# Altium schematic symbol library Commodore CPM Modul.SCHLIB: 21 symbols
Pins are listed as number, name and electrical type; pins without a type are passive.

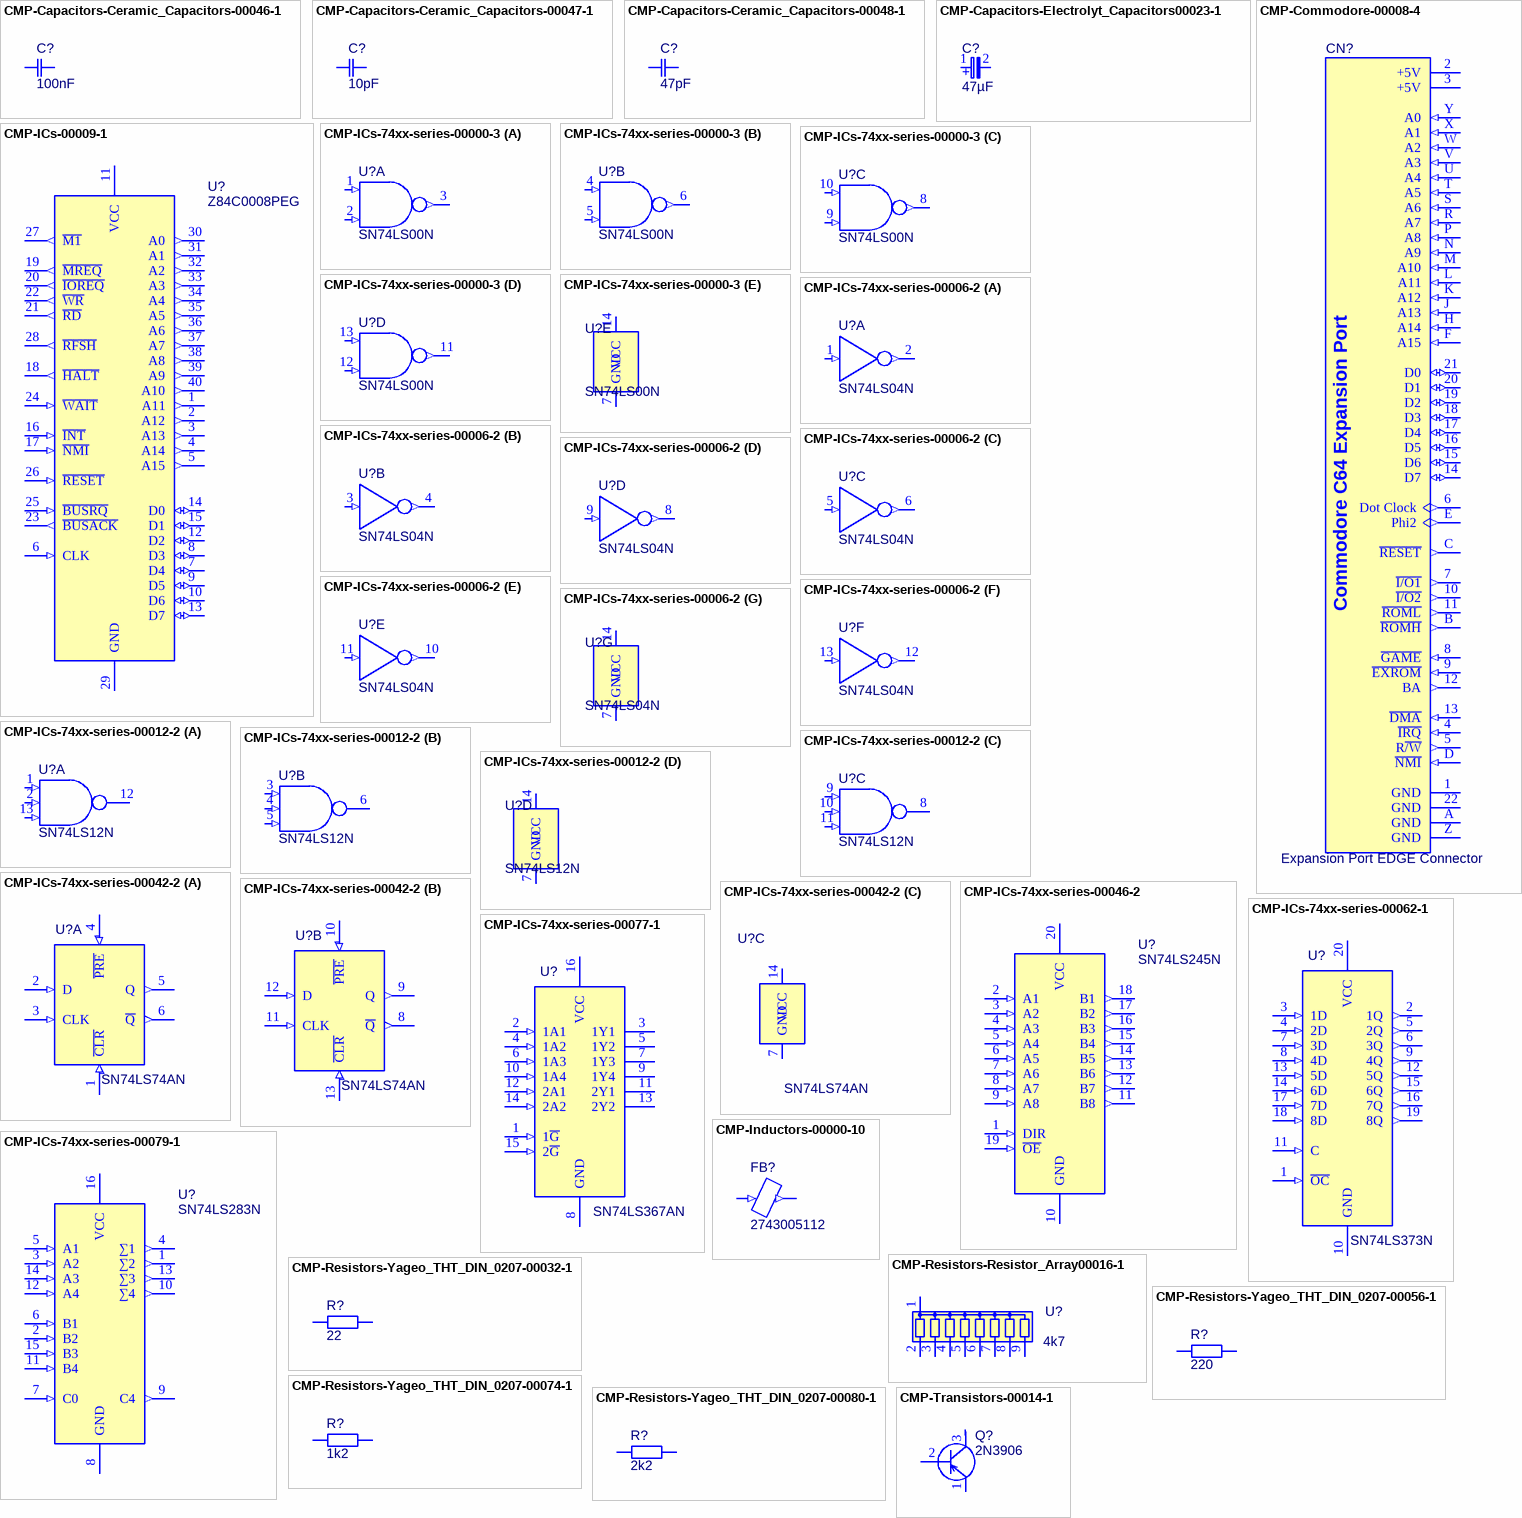
[diagram p0: symbols CMP-Capacitors-Ceramic_Capacitors-00046-1 to CMP-Transistors-00014-1]

## CMP-Capacitors-Ceramic_Capacitors-00046-1
designator C?, comment 100nF
Cap Ceramic 0.1uF 50V X7R 5% Radial 5.08mm 125C Bulk; Manufacturer: KEMET; Manufacturer Part Number: C330C104J5R5TA; Capacitance: 100nF; Construction: RADIAL; Length: 7.62mm; Mount: Through Hole; Radiation Hardening: No; Max Operating Temperature: 125°C; Min Operating Temperature: -55°C; RoHS Compliant: Yes; Depth: 3.81mm; Termination: Radial; Case/Package: Dipped; Tolerance: 5%; Packaging: Bulk; Lead Pitch: 5.08mm; Dielectric: X7R; Component Type: Ceramic Capacitors
footprint CAP CER 0.1UF 50V X7R RADIAL Kemet C330C104J5R5TA (0,1µF ±5% 50V Keramikkondensatoren X7R Radial)
pins: 1, 2

## CMP-Capacitors-Ceramic_Capacitors-00047-1
designator C?, comment 10pF
Cap Ceramic 10pF 50V C0G 5% Axial 125C T/R; Manufacturer: Vishay BCcomponents; Manufacturer Part Number: A100J15C0GF5TAA; Voltage Rating: 50V; Max Operating Temperature: 125°C; RoHS Compliant: Yes; Package Quantity: 7000; Series: A; Min Operating Temperature: -55°C; Termination: Axial; Radiation Hardening: No; Construction: AXIAL; Capacitance: 10pF; Case/Package: Axial; Dielectric: C0G; Packaging: Tape and Reel; Mount: Through Hole; Tolerance: 5%; Length: 0.15inch; Component Type: Ceramic Capacitors
footprint CAP CER 10PF 50V C0G/NP0 AXIAL Vishay A100J15C0GF5TAA (10pF ±5% 50V Keramikkondensatoren C0G, NP0 Axial)
pins: 1, 2

## CMP-Capacitors-Ceramic_Capacitors-00048-1
designator C?, comment 47pF
Cap Ceramic 47pF 50V C0G 5% Axial 125C T/R; Manufacturer: Vishay BCcomponents; Manufacturer Part Number: A470J15C0GF5TAA; Series: A; Voltage Rating: 50V; Termination: Axial; Packaging: Tape and Reel; Max Operating Temperature: 125°C; Construction: AXIAL; Dielectric: C0G; Mount: Through Hole; Tolerance: 5%; Min Operating Temperature: -55°C; Case/Package: Axial; Radiation Hardening: No; Capacitance: 47pF; RoHS Compliant: Yes; Length: 0.15inch; Package Quantity: 7000; Component Type: Ceramic Capacitors
footprint CAP CER 47PF 50V C0G/NP0 AXIAL Vishay A470J15C0GF5TAA (47pF ±5% 50V Keramikkondensatoren C0G, NP0 Axial)
pins: 1, 2

## CMP-Capacitors-Electrolyt_Capacitors00023-1
designator C?, comment 47µF
Cap Aluminum 47uF 25V -10% to 50% (6 X 10mm) Axial 4.8 Ohm 100mA 3000 hr 85C Taped in Box; Manufacturer: Vishay; Manufacturer Part Number: MAL203036479E3; Life (Hours): 3000Hour; Lead Diameter: 0.6mm; Leakage Current: 12uA; Polarity: Polar; Impedance: 1.9R; ESR (Equivalent Series Resistance): 4.8R; Radiation Hardening: No; Voltage Rating: 25V; Termination: Axial; Diameter: 6mm; Min Operating Temperature: -40°C; Capacitance: 47uF; Ripple Current: 100mA; Series: 030 AS; Case/Package: Axial; RoHS Compliant: Yes; Voltage: 25V; Voltage Rating (DC): 25V; Mount: Through Hole; Package Quantity: 1000; Packaging: Tape and Reel; Tolerance: 50%; Lead Pitch: 15mm; Height: 10mm; Construction: AXIAL; Max Operating Temperature: 85°C; Length: 10mm; REACH SVHC: Unknown; Component Type: Electrolyt Capacitors
footprint CAP Elec 47uF 25V Axial - Vishay MAL203036479E3 (Aluminium Electrolytic Capacitors - Axial Leaded 47uF 25V -10%,+50% Axial)
pins: 1, 2
text: +

## CMP-Commodore-00008-4
designator CN?, comment Expansion Port EDGE Connector  (no BOM)
Expansion Port EDGE Connector for Interface Cards; Component Type: Commodore
footprint C64 Expansion Port EDGE Connector
pins: 1 GND (power), 2 +5V (power), 3 +5V (power), 4 ~{IRQ} (in), 5 R~{/W} (out), 6 Dot Clock (out), 7 ~{I/O1} (out), 8 ~{GAME} (in), 9 ~{EXROM} (in), 10 ~{I/O2} (out), 11 ~{ROML} (out), 12 BA (out), 13 ~{DMA} (in), 14 D7 (io), 15 D6 (io), 16 D5 (io), 17 D4 (io), 18 D3 (io), 19 D2 (io), 20 D1 (io), 21 D0 (io), 22 GND (power), A GND (power), B ~{ROMH} (out), C ~{RESET} (out), D ~{NMI} (in), E Phi2 (out), F A15 (in), H A14 (in), J A13 (in), K A12 (in), L A11 (in), M A10 (in), N A9 (in), P A8 (in), R A7 (in), S A6 (in), T A5 (in), U A4 (in), V A3 (in), W A2 (in), X A1 (in), Y A0 (in), Z GND (power)
text: Commodore C64 Expansion Port

## CMP-ICs-00009-1
designator U?, comment Z84C0008PEG
IC MPU Z80 8MHZ 40DIP; Manufacturer: Ixys Zilog; Memory Size: 64KB; Core Architecture: Z8; Data Bus Width: 8b; Memory Type: ROMless; Max Supply Voltage: 5V; Number of I/Os: 24; Min Supply Voltage: 4.5V; Max Operating Temperature: 100°C; Mount: Through Hole; REACH SVHC: Unknown; Lead Free: Lead Free; Case/Package: DIP; Max Frequency: 8MHz; Frequency: 8MHz; Length: 62.74mm; Height: 4.19mm; Radiation Hardening: No; Packaging: Rail/Tube; Number of Pins: 40; Voltage: 5V; Min Operating Temperature: -40°C; Width: 14.22mm; Package Quantity: 10; Manufacturer Part Number: Z84C0008PEG; Component Type: ICs
footprint Zilog Z80 CPU with Socket
footprint Zilog Z80 CPU
pins: 1 A11 (out), 2 A12 (out), 3 A13 (out), 4 A14 (out), 5 A15 (out), 6 CLK (in), 7 D4 (io), 8 D3 (io), 9 D5 (io), 10 D6 (io), 11 VCC (power), 12 D2 (io), 13 D7 (io), 14 D0 (io), 15 D1 (io), 16 ~{INT} (in), 17 ~{NMI} (in), 18 ~{HALT} (out), 19 ~{MREQ} (out), 20 ~{IOREQ} (out), 21 ~{RD} (out), 22 ~{WR} (out), 23 ~{BUSACK} (out), 24 ~{WAIT} (in), 25 ~{BUSRQ} (in), 26 ~{RESET} (in), 27 ~{M1} (out), 28 ~{RFSH} (out), 29 GND (power), 30 A0 (out), 31 A1 (out), 32 A2 (out), 33 A3 (out), 34 A4 (out), 35 A5 (out), 36 A6 (out), 37 A7 (out), 38 A8 (out), 39 A9 (out), 40 A10 (out)

## CMP-ICs-74xx-series-00000-3
designator U?, comment SN74LS00N
IC, 74LS, 74LS00, DIP14, 5.25V; Manufacturer: Texas Instruments; Number of Gates: 4; High Level Output Current: -400uA; Number of Input Lines: 2; Number of Output Lines: 1; Low Level Output Current: 8mA; Schmitt Trigger Input: No; Min Supply Voltage: 4.75V; Turn-On Delay Time: 15ns; Output Current: 16mA; Logic Function: NAND; Operating Supply Voltage: 5V; Quiescent Current: 2.4mA; Max Operating Temperature: 70°C; Number of Bits: 4; Packaging: Rail/Tube; Case/Package: PDIP; Lead Free: Lead Free; Length: 19.3mm; Radiation Hardening: No; Package Quantity: 25; Width: 6.35mm; Number of Elements: 4; Mount: Through Hole; Number of Circuits: 4; Min Operating Temperature: 0°C; Contact Plating: Gold; Number of Outputs: 1; Height: 4.57mm; Number of Inputs: 2; Number of Pins: 14; Propagation Delay: 15ns; REACH SVHC: No SVHC; Max Supply Voltage: 5.25V; Weight: 0.032734oz; Manufacturer Part Number: SN74LS00N; Component Type: 74xx-series
footprint SN74LS00N with Socket
footprint SN74LS00N
part A pins: 1 1A (in), 2 1B (in), 3 1Y (out)
part B pins: 4 2A (in), 5 2B (in), 6 2Y (out)
part C pins: 8 3Y (out), 9 3B (in), 10 3A (in)
part D pins: 11 4Y (out), 12 4B (in), 13 4A (in)
part E pins: 7 GND, 14 VCC (power)

## CMP-ICs-74xx-series-00006-2
designator U?, comment SN74LS04N
IC HEX INVERTER 14-DIP; Manufacturer: Texas Instruments; Low Level Output Current: 8mA; Number of Output Lines: 6; Propagation Delay: 15ns; High Level Output Current: -400uA; Operating Supply Voltage: 5V; Min Supply Voltage: 4.75V; Logic Function: Buffer,Inverter; Turn-On Delay Time: 22ns; Nominal Supply Current: 100uA; Number of Inputs: 1; Max Supply Voltage: 5.25V; Schmitt Trigger Input: No; Contact Plating: Gold; Packaging: Rail/Tube; Case/Package: PDIP; Lead Free: Lead Free; Weight: 0.032734oz; Width: 6.35mm; Number of Pins: 14; Output Current: 8mA; Number of Gates: 6; Length: 19.3mm; REACH SVHC: No SVHC; Max Output Current: 8mA; Number of Circuits: 6; Min Operating Temperature: 0°C; Number of Bits: 6; Mount: Through Hole; Height: 4.57mm; Package Quantity: 25; Number of Elements: 6; Max Operating Temperature: 70°C; Radiation Hardening: No; Termination: Through Hole; Manufacturer Part Number: SN74LS04N; Component Type: 74xx-series
footprint SN74LS04N with Socket
footprint SN74LS04N
part A pins: 1 1A (in), 2 1Y (out)
part B pins: 3 2A (in), 4 2Y (out)
part C pins: 5 3A (in), 6 3Y (out)
part D pins: 8 4Y (out), 9 4A (in)
part E pins: 10 5Y (out), 11 5A (in)
part F pins: 12 6Y (out), 13 6A (in)
part G pins: 7 GND, 14 VCC (power)

## CMP-ICs-74xx-series-00012-2
designator U?, comment SN74LS12N
Logic Gates Triple 3-input Positive-NAND gates with open collector outputs 14-PDIP 0 to 70; Manufacturer: Texas Instruments; Logic Function: NAND; Case/Package: PDIP; Lead Free: Contains Lead; Manufacturer Part Number: SN74LS12N; Component Type: 74xx-series
footprint SN74LS12N with Socket (triple 3-input NAND gate)
footprint SN74LS12N (triple 3-input NAND gate)
part A pins: 1 1A (in), 2 1B (in), 12 1Y (oc), 13 1C (in)
part B pins: 3 2A (in), 4 2B (in), 5 2C (in), 6 2Y (oc)
part C pins: 8 3Y (oc), 9 3A (in), 10 3C (in), 11 3B (in)
part D pins: 7 GND, 14 VCC (power)

## CMP-ICs-74xx-series-00042-2
designator U?, comment SN74LS74AN
TEXAS INSTRUMENTS   SN74LS74AN   Flip-Flop, with Set and Reset, Complementary Output, Differential, Positive Edge, D, 13 ns, 33 MHz; Max Supply Voltage: 5.25V; Number of Bits: 2; Frequency: 33MHz; Number of Input Lines: 3; Output Current: 16mA; Propagation Delay: 40ns; Min Supply Voltage: 4.75V; Output Type: TTL; Logic Function: AND,D-Type,Flip-Flop,Latch; Number of Output Lines: 1; Polarity: Non-Inverting; Turn-On Delay Time: 13ns; Nominal Supply Current: 25mA; Operating Supply Voltage: 5V; Low Level Output Current: 8mA; High Level Output Current: -400uA; Radiation Hardening: No; Case/Package: PDIP; Width: 6.35mm; Contact Plating: Gold; Length: 19.3mm; Weight: 0.032734oz; Clock Edge Trigger Type: Positive Edge; Mount: Through Hole; Max Frequency: 33MHz; Min Operating Temperature: 0°C; Number of Circuits: 2; Packaging: Rail/Tube; Number of Channels: 2; REACH SVHC: No SVHC; Number of Pins: 14; Height: 4.57mm; Number of Bits per Element: 1; Max Operating Temperature: 70°C; Lead Free: Lead Free; Package Quantity: 25; Number of Elements: 2; Manufacturer: Texas Instruments; Manufacturer Part Number: SN74LS74AN; Component Type: 74xx-series
footprint SN74LS74N with Socket
footprint SN74LS74N
part A pins: 1 ~{CLR} (in), 2 D (in), 3 CLK (in), 4 ~{PRE} (in), 5 Q (out), 6 ~{Q} (out)
part B pins: 8 ~{Q} (out), 9 Q (out), 10 ~{PRE} (in), 11 CLK (in), 12 D (in), 13 ~{CLR} (in)
part C pins: 7 GND, 14 VCC (power)

## CMP-ICs-74xx-series-00046-2
designator U?, comment SN74LS245N
IC TXRX NON-INVERT 5.25V 20DIP; Manufacturer: Texas Instruments; Turn-On Delay Time: 12ns; Logic Function: Transceiver,Inverting; Number of Outputs: 8; Min Supply Voltage: 4.75V; Operating Supply Voltage: 5V; Quiescent Current: 62mA; Polarity: Non-Inverting; Low Level Output Current: 24mA; Number of Elements: 1; High Level Output Current: -15mA; Direction: Bidirectional; Mount: Through Hole; Number of Bits: 8; Number of Circuits: 8; Propagation Delay: 12ns; Number of Transceivers: 8; Max Operating Temperature: 70°C; Number of Bits per Element: 8; Contact Plating: Gold; Length: 24.33mm; Weight: 0.042297oz; Width: 6.35mm; Lead Free: Lead Free; Number of Pins: 20; Packaging: Rail/Tube; Max Supply Voltage: 5.25V; Radiation Hardening: No; Height: 4.57mm; Min Operating Temperature: 0°C; Termination: Through Hole; REACH SVHC: No SVHC; Number of Channels: 8; Case/Package: PDIP; Package Quantity: 20; Manufacturer Part Number: SN74LS245N; Component Type: 74xx-series
footprint SN74LS245N with Socket
footprint SN74LS245N
pins: 1 DIR (in), 2 A1 (in), 3 A2 (in), 4 A3 (in), 5 A4 (in), 6 A5 (in), 7 A6 (in), 8 A7 (in), 9 A8 (in), 10 GND, 11 B8 (out), 12 B7 (out), 13 B6 (out), 14 B5 (out), 15 B4 (out), 16 B3 (out), 17 B2 (out), 18 B1 (out), 19 ~{OE} (in), 20 VCC

## CMP-ICs-74xx-series-00062-1
designator U?, comment SN74LS373N
Latch Transparent 3-ST 8-CH D-Type 20-Pin PDIP Tube; Manufacturer: Texas Instruments; Max Supply Voltage: 5.25V; Number of Circuits: 8; Logic Function: D-Type,Latch,Flip-Flop; Low Level Output Current: 24mA; Number of Output Lines: 1; Propagation Delay: 18ns; Number of Input Lines: 3; Operating Supply Current: 40mA; Min Supply Voltage: 4.75V; Polarity: Non-Inverting; Operating Supply Voltage: 5V; Turn-On Delay Time: 12ns; High Level Output Current: -2.6mA; Weight: 0.042297oz; Number of Bits: 8; Max Operating Temperature: 70°C; Package Quantity: 20; Number of Outputs: 8; Case/Package: PDIP; Quiescent Current: 24mA; Min Operating Temperature: 0°C; Width: 6.35mm; Contact Plating: Gold; Lead Free: Lead Free; Number of Elements: 1; Mount: Through Hole; Number of Channels: 8; Height: 4.57mm; REACH SVHC: No SVHC; Number of Pins: 20; Packaging: Rail/Tube; Output Current: 24mA; Radiation Hardening: No; Independent Circuits: 1; Length: 24.33mm; Manufacturer Part Number: SN74LS373N; Component Type: 74xx-series
footprint SN74LS373N with Socket (OCTAL D-TYPE TRANSPARENT LATCHES AND EDGE-TRIGGERED FLIP-FLOPS)
footprint SN74LS373N (OCTAL D-TYPE TRANSPARENT LATCHES AND EDGE-TRIGGERED FLIP-FLOPS)
pins: 1 ~{OC} (in), 2 1Q (out), 3 1D (in), 4 2D (in), 5 2Q (out), 6 3Q (out), 7 3D (in), 8 4D (in), 9 4Q (out), 10 GND (power), 11 C (in), 12 5Q (out), 13 5D (in), 14 6D (in), 15 6Q (out), 16 7Q (out), 17 7D (in), 18 8D (in), 19 8Q (out), 20 VCC (power)

## CMP-ICs-74xx-series-00077-1
designator U?, comment SN74LS367AN
I.C. SN74LS 367 AN; Manufacturer: ON Semiconductor; Number of Inputs: 6; Nominal Supply Current: 100uA; Low Level Output Current: 24mA; Quiescent Current: 12mA; Min Supply Voltage: 4.75V; Propagation Delay: 40ns; High Level Output Current: -2.6mA; Max Supply Voltage: 5.25V; Polarity: Non-Inverting; Number of Elements: 2; Operating Supply Voltage: 5V; Logic Function: Buffer; Output Type: 3-STATE; Width: 6.35mm; Height: 4.57mm; Number of Bits: 6; Technology: BIPOLAR; Max Operating Temperature: 70°C; RoHS Compliant: No; Length: 19.3mm; Number of Channels: 6; Mount: Through Hole; Min Operating Temperature: 0°C; Number of Circuits: 6; REACH SVHC: No SVHC; Case/Package: PDIP; Packaging: Box; Lead Free: Lead Free; Number of Outputs: 6; Output Current: 24mA; Number of Pins: 16; Manufacturer Part Number: SN74LS367AN; Component Type: 74xx-series
footprint SN74LS367A with Socket (hex buffer, non-inverting outputs)
footprint SN74LS367A (hex buffer, non-inverting outputs)
pins: 1 1~{G} (in), 2 1A1 (in), 3 1Y1 (oc), 4 1A2 (in), 5 1Y2 (oc), 6 1A3 (in), 7 1Y3 (oc), 8 GND (power), 9 1Y4 (oc), 10 1A4 (in), 11 2Y1 (oc), 12 2A1 (in), 13 2Y2, 14 2A2 (in), 15 2~{G} (in), 16 VCC (power)

## CMP-ICs-74xx-series-00079-1
designator U?, comment SN74LS283N
Binary Full Adder Single 4-Bit 16-Pin PDIP Box; Manufacturer: ON Semiconductor; Operating Supply Voltage: 5V; High Level Output Current: -400uA; Max Supply Voltage: 5.25V; Low Level Output Current: 8mA; Min Supply Voltage: 4.75V; Number of Bits: 4; Lead Free: Lead Free; Max Operating Temperature: 70°C; Number of Pins: 16; RoHS Compliant: No; REACH SVHC: No SVHC; Packaging: Box; Logic Function: Binary Full Adder; Mount: Through Hole; Min Operating Temperature: 0°C; Case/Package: PDIP; Manufacturer Part Number: SN74LS283N; Component Type: 74xx-series
footprint SN74LS283N with Socket (4-bit binary full adder (has carry in function))
footprint SN74LS283N (4-bit binary full adder (has carry in function))
pins: 1 ∑2 (out), 2 B2 (in), 3 A2 (in), 4 ∑1 (out), 5 A1 (in), 6 B1 (in), 7 C0 (in), 8 GND (power), 9 C4 (out), 10 ∑4 (out), 11 B4 (in), 12 A4 (in), 13 ∑3 (out), 14 A3 (in), 15 B3 (in), 16 VCC (power)

## CMP-Inductors-00000-10
designator FB?, comment 2743005112
Ferrite Beads Axial 91Ohm 100MHz T/R; Manufacturer: Fair-Rite; Impedance: 91R; Shielding: Unshielded; Test Frequency: 100MHz; Diameter: 3.5mm; Min Operating Temperature: -55°C; Packaging: Tape and Reel; Package Quantity: 4500; Max Operating Temperature: 125°C; Case/Package: Axial; Termination: Axial; Length: 6mm; Manufacturer Part Number: 2743005112; Component Type: Displays
footprint Ferrite Bead Fair Rite 2743005112 (FERRITE BEAD AXIAL 1LN)
footprint Ferrite Bead Fair Rite 2743005112 axial 10,16mm (FERRITE BEAD AXIAL 1LN)
pins: 1 (in), 2 (out)

## CMP-Resistors-Resistor_Array00016-1
designator U?, comment 4k7
Resistor Networks & Arrays 9pin 4.7Kohms 2% Bussed; Manufacturer: Vishay Dale; Manufacturer Part Number: CSC09A014K70GPA; Voltage Rating (DC): 100V; Number of Elements: 10; Resistance: 4.7kR; Power Rating: 1.12W; Number of Resistors: 8; Power Per Element: 200mW; Number of Contacts: 9; Temperature Coefficient: 100ppm/°C; Max Operating Temperature: 125°C; Lead Pitch: 2.54mm; Contact Plating: Tin,Lead; Technology: THICK FILM; Width: 0.098inch; Circuit Type: Bussed; Thickness: 2.49mm; Tolerance: 2%; Length: 22.61mm; Number of Pins: 9; Series: CSC; Mount: Through Hole; Resistance Tolerance: 2%; Working Voltage: 100V; Packaging: Bulk; Depth: 2.49mm; REACH SVHC: Unknown; Radiation Hardening: No; RoHS Compliant: No; Termination: Pin; Military Standard: Not; Terminal Pitch: 2.54mm; Number of Terminals/Pins: 9; Min Operating Temperature: -55°C; Voltage Rating: 100V; Package Quantity: 1000; Height: 0.195inch; Lead Free: Contains Lead; Case/Package: SIP; Number of Terminals: 10; Component Type: Resistor Arrays
footprint 4k7 x8 Resistor Array SIL Royal 9A472G
pins: 1, 2, 3, 4, 5, 6, 7, 8, 9

## CMP-Resistors-Yageo_THT_DIN_0207-00032-1
designator R?, comment 22
RES 22 OHM 1/4W 5% AXIAL; Manufacturer: Yageo; Manufacturer Part Number: CFR-25JB-52-22R; Temperature Coefficient: 500ppm/°C; Max Power Dissipation: 250mW; Resistance: 22R; Length: 0.248inch; Number of Terminations: 2; Tolerance: 5%; Packaging: Bulk; Max Operating Temperature: 155°C; Min Operating Temperature: -55°C; Package Quantity: 200; Composition: Carbon Film; Case/Package: Axial; Component Type: Yageo THT DIN 0207
footprint 22 Ohm R Axial DIN0207 L6.3mm D2.5mm P7.62mm Horizontal
footprint 22 Ohm R Axial DIN0207 L6.3mm D2.5mm P10.16mm Horizontal
footprint 22 Ohm R Axial DIN0207 L6.3mm D2.5mm P15.24mm Horizontal
footprint 22 Ohm R Axial DIN0207 L6.3mm D2.5mm P2.54mm Vertical
footprint 22 Ohm R Axial DIN0207 L6.3mm D2.5mm P5.08mm Vertical
pins: 1, 2

## CMP-Resistors-Yageo_THT_DIN_0207-00056-1
designator R?, comment 220
RES 220 OHM 1/4W 5% AXIAL; Manufacturer: Yageo; Manufacturer Part Number: CFR-25JB-52-220R; Max Power Dissipation: 250mW; Resistance: 220R; Temperature Coefficient: 500ppm/°C; Max Operating Temperature: 155°C; Number of Terminations: 2; Packaging: Bulk; Min Operating Temperature: -55°C; Length: 0.248inch; Package Quantity: 200; Case/Package: Axial; Tolerance: 5%; Composition: Carbon Film; Component Type: Yageo THT DIN 0207
footprint 220 Ohm R Axial DIN0207 L6.3mm D2.5mm P7.62mm Horizontal
footprint 220 Ohm R Axial DIN0207 L6.3mm D2.5mm P10.16mm Horizontal
footprint 220 Ohm R Axial DIN0207 L6.3mm D2.5mm P15.24mm Horizontal
footprint 220 Ohm R Axial DIN0207 L6.3mm D2.5mm P2.54mm Vertical
footprint 220 Ohm R Axial DIN0207 L6.3mm D2.5mm P5.08mm Vertical
pins: 1, 2

## CMP-Resistors-Yageo_THT_DIN_0207-00074-1
designator R?, comment 1k2
RES 1.2K OHM 1/4W 5% AXIAL; Manufacturer: Yageo; Manufacturer Part Number: CFR-25JB-52-1K2; Resistance: 1.2kR; Temperature Coefficient: 500ppm/°C; Max Power Dissipation: 250mW; Length: 0.248inch; Min Operating Temperature: -55°C; Lead Free: Lead Free; Package Quantity: 200; Composition: Carbon Film; Packaging: Bulk; Number of Terminations: 2; Case/Package: Axial; Tolerance: 5%; Max Operating Temperature: 155°C; Component Type: Yageo THT DIN 0207
footprint 1,2 kOhm R Axial DIN0207 L6.3mm D2.5mm P7.62mm Horizontal
footprint 1,2 kOhm R Axial DIN0207 L6.3mm D2.5mm P10.16mm Horizontal
footprint 1,2 kOhm R Axial DIN0207 L6.3mm D2.5mm P15.24mm Horizontal
footprint 1,2 kOhm R Axial DIN0207 L6.3mm D2.5mm P2.54mm Vertical
footprint 1,2 kOhm R Axial DIN0207 L6.3mm D2.5mm P5.08mm Vertical
pins: 1, 2

## CMP-Resistors-Yageo_THT_DIN_0207-00080-1
designator R?, comment 2k2
RES 2.2K OHM 1/4W 5% AXIAL; Manufacturer: Yageo; Manufacturer Part Number: CFR-25JB-52-2K2; Max Power Dissipation: 250mW; Temperature Coefficient: 500ppm/°C; Resistance: 2.2kR; Number of Terminations: 2; Max Operating Temperature: 155°C; Package Quantity: 200; Lead Free: Lead Free; Tolerance: 5%; Min Operating Temperature: -55°C; Length: 0.248inch; Composition: Carbon Film; Packaging: Bulk; Case/Package: Axial; Mount: Through Hole; Component Type: Yageo THT DIN 0207
footprint 2,2 kOhm R Axial DIN0207 L6.3mm D2.5mm P7.62mm Horizontal
footprint 2,2 kOhm R Axial DIN0207 L6.3mm D2.5mm P10.16mm Horizontal
footprint 2,2 kOhm R Axial DIN0207 L6.3mm D2.5mm P15.24mm Horizontal
footprint 2,2 kOhm R Axial DIN0207 L6.3mm D2.5mm P2.54mm Vertical
footprint 2,2 kOhm R Axial DIN0207 L6.3mm D2.5mm P5.08mm Vertical
pins: 1, 2

## CMP-Transistors-00014-1
designator Q?, comment 2N3906
Bipolar Transistor PNP Amplifier/Switch 40V 200mA 3-Pin TO-92 Through Hole Box; Manufacturer: Central Semiconductor; Collector Emitter Saturation Voltage: 400mV; Transition Frequency: 250MHz; Element Configuration: Single; Max Power Dissipation: 625mW; Max Collector Current: 50nA; hFE Min: 100; Emitter Base Voltage (VEBO): 5V; Mount: Through Hole; Collector-emitter Voltage-Max: 40V; Collector Base Voltage (VCBO): 40V; Series: -; Lead Free: Lead Free; Collector Emitter Breakdown Voltage: 40V; Gain Bandwidth Product: 250MHz; RoHS Compliant: Yes; Packaging: Bulk; Collector Emitter Voltage (VCEO): 40V; Case/Package: TO-92; Polarity: PNP; Package Quantity: 2500; Continuous Collector Current: 200mA; Manufacturer Part Number: 2N3906; Component Type: Transistors
footprint 2N3906 (PNP General Purpose  Transistors)
pins: 1, 2, 3